# Altium footprint library BC817-25-TP.PcbLib: 3 footprints
Each footprint in its own frame and in the unit in brackets; x right, y up, seen from the top. Pads: shape width x height; smd on the part's side, far side on the other; paste and mask are expansions set on the pad; w line width, h text height; cw(c..) or ccw(c..) is an arc to the next point about the centre after c.
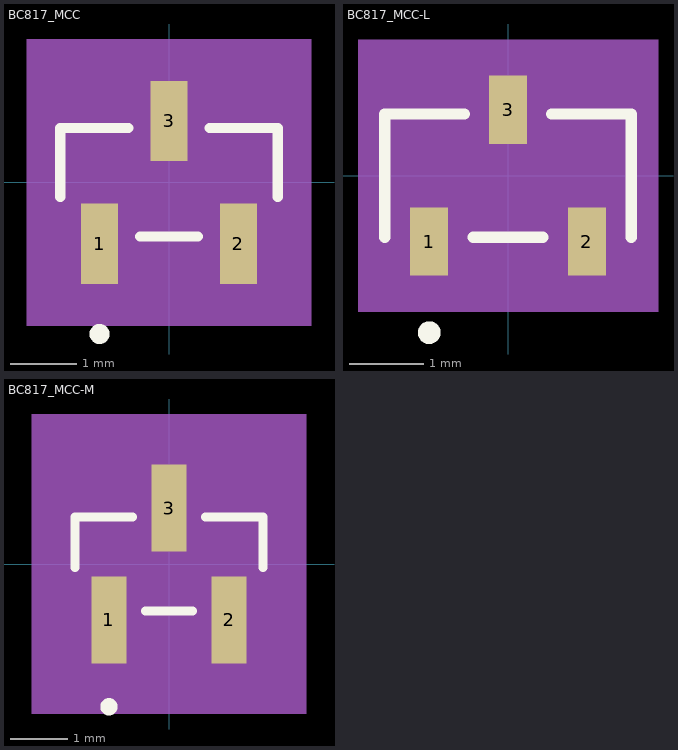
[diagram p0: the footprints below, top view; thin cyan lines are the x and y axes]

## BC817_MCC [mil]
pads (3):
  rect 22x48 smd paste+0 mask+0: 1(-41.5,-36.65) 2(41.5,-36.65) 3(0,36.65)
Top Overlay:
  circle w6: c-41.5,-90.65 r3
  lines w6: -65,-8.73 -65,32.5 -24.1,32.5 ; -17.4,-32.5 17.4,-32.5 ; 24.1,32.5 65,32.5 65,-8.73
Mechanical 5:
  region: -85,85.65 85,85.65 85,-85.65 -85,-85.65
Mechanical 13:
  circle w0: c-41.5,-17.5 r3
  lines w1: -60,-27.5 60,-27.5 60,27.5 -60,27.5 -60,-27.5 ; -51.5,-46.65 -51.5,-27.5 -31.5,-27.5 -31.5,-46.65 -51.5,-46.65 ; -10,27.5 10,27.5 10,46.65 -10,46.65 -10,27.5 ; 31.5,-46.65 31.5,-27.5 51.5,-27.5 51.5,-46.65 31.5,-46.65
Mechanical 15:
  region: -70,-37.5 -70,37.5 -20,37.5 -20,70.65 20,70.65 20,37.5 70,37.5 70,-37.5 61.5,-37.5 61.5,-70.65 -61.5,-70.65 -61.5,-37.5
  lines w6: -70,-37.5 -70,37.5 -20,37.5 -20,70.65 20,70.65 20,37.5 70,37.5 70,-37.5 61.5,-37.5 61.5,-70.65 -61.5,-70.65 -61.5,-37.5 -70,-37.5
3D body "BC817_MCC.step": height 43.11, standoff 0, extent -60,-46.65 60,46.65

## BC817_MCC-L [mil]
pads (3):
  rect 20x36 smd paste+0 mask+0: 1(-41.5,-34.65) 2(41.5,-34.65) 3(0,34.65)
Top Overlay:
  circle w6: c-41.5,-82.65 r3
  lines w6: -65,-32.5 -65,32.5 -23.1,32.5 ; -18.4,-32.5 18.4,-32.5 ; 23.1,32.5 65,32.5 65,-32.5
Mechanical 5:
  region: -79,71.65 79,71.65 79,-71.65 -79,-71.65
Mechanical 13:
  circle w0: c-41.5,-17.5 r3
  lines w1: -60,-27.5 60,-27.5 60,27.5 -60,27.5 -60,-27.5 ; -51.5,-46.65 -51.5,-27.5 -31.5,-27.5 -31.5,-46.65 -51.5,-46.65 ; -10,27.5 10,27.5 10,46.65 -10,46.65 -10,27.5 ; 31.5,-46.65 31.5,-27.5 51.5,-27.5 51.5,-46.65 31.5,-46.65
Mechanical 15:
  region: -64,-31.5 -64,31.5 -14,31.5 -14,56.65 14,56.65 14,31.5 64,31.5 64,-31.5 55.5,-31.5 55.5,-56.65 -55.5,-56.65 -55.5,-31.5
  lines w6: -64,-31.5 -64,31.5 -14,31.5 -14,56.65 14,56.65 14,31.5 64,31.5 64,-31.5 55.5,-31.5 55.5,-56.65 -55.5,-56.65 -55.5,-31.5 -64,-31.5
3D body "BC817_MCC.step": height 43.11, standoff 0, extent -60,-46.65 60,46.65

## BC817_MCC-M [mil]
pads (3):
  rect 24x60 smd paste+0 mask+0: 1(-41.5,-38.65) 2(41.5,-38.65) 3(0,38.65)
Top Overlay:
  circle w6: c-41.5,-98.65 r3
  lines w6: -65,-2.38 -65,32.5 -25.1,32.5 ; -16.4,-32.5 16.4,-32.5 ; 25.1,32.5 65,32.5 65,-2.38
Mechanical 5:
  region: -95,103.65 95,103.65 95,-103.65 -95,-103.65
Mechanical 13:
  circle w0: c-41.5,-17.5 r3
  lines w1: -60,-27.5 60,-27.5 60,27.5 -60,27.5 -60,-27.5 ; -51.5,-46.65 -51.5,-27.5 -31.5,-27.5 -31.5,-46.65 -51.5,-46.65 ; -10,27.5 10,27.5 10,46.65 -10,46.65 -10,27.5 ; 31.5,-46.65 31.5,-27.5 51.5,-27.5 51.5,-46.65 31.5,-46.65
Mechanical 15:
  region: -80,-47.5 -80,47.5 -30,47.5 -30,88.65 30,88.65 30,47.5 80,47.5 80,-47.5 71.5,-47.5 71.5,-88.65 -71.5,-88.65 -71.5,-47.5
  lines w6: -80,-47.5 -80,47.5 -30,47.5 -30,88.65 30,88.65 30,47.5 80,47.5 80,-47.5 71.5,-47.5 71.5,-88.65 -71.5,-88.65 -71.5,-47.5 -80,-47.5
3D body "BC817_MCC.step": height 43.11, standoff 0, extent -60,-46.65 60,46.65